# Altium schematic symbol library ADS7818P.SchLib: 1 symbol
Pins are listed as number, name and electrical type; pins without a type are passive.

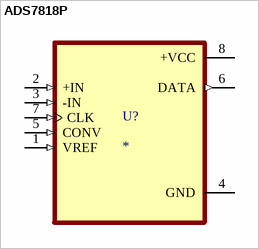
[diagram p0: symbol ADS7818P]

## ADS7818P
designator U?
MP: ADS7818P; Package: None; Price: None; Value: *; Availability: Unavailable
footprint DIP794W45P254L959H508Q8
pins: 1 VREF (in), 2 +IN (in), 3 -IN (in), 4 GND (power), 5 CONV (in), 6 DATA (out), 7 CLK (in), 8 +VCC (power)